# Altium footprint library Mechanical_Hardware_Icons.PcbLib: 1 footprints
Each footprint in its own frame and in the unit in brackets; x right, y up, seen from the top. Pads: shape width x height; smd on the part's side, far side on the other; paste and mask are expansions set on the pad; w line width, h text height; cw(c..) or ccw(c..) is an arc to the next point about the centre after c.
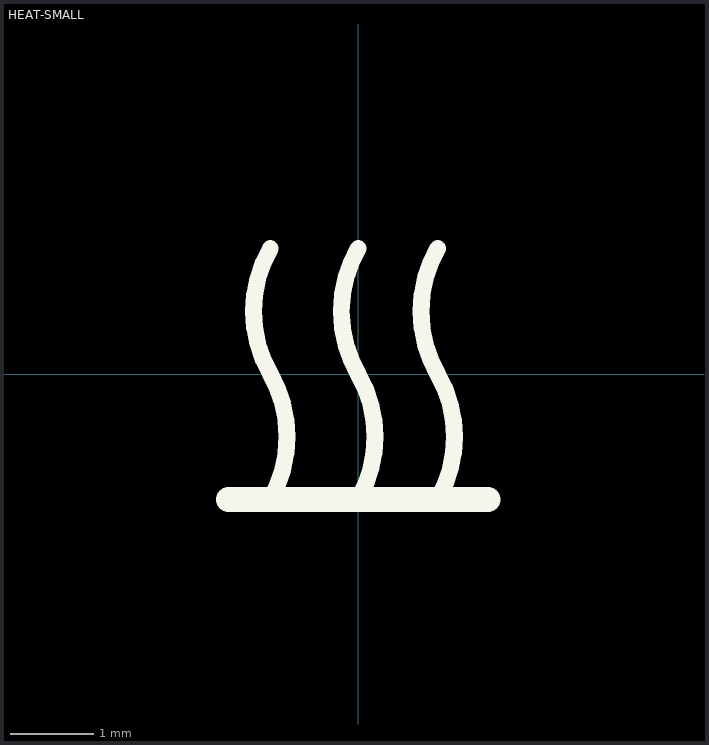
[diagram p0: the footprint, top view; thin cyan lines are the x and y axes]

## HEAT-SMALL [mm]
Top Overlay:
  lines w0.2: -1.05,-1.5 ccw(c-2.35,-0.75) -1.05,0 cw(c0.25,0.75) -1.05,1.5 ; 0,-1.5 ccw(c-1.3,-0.75) 0,0 cw(c1.3,0.75) 0,1.5 ; 0.95,-1.5 ccw(c-0.35,-0.75) 0.95,0 cw(c2.25,0.75) 0.95,1.5
  lines w0.3: -1.55,-1.5 1.55,-1.5
Top Package:
  lines w0.1: -1.05,-1.5 ccw(c-2.35,-0.75) -1.05,0 cw(c0.25,0.75) -1.05,1.5 ; 0,-1.5 ccw(c-1.3,-0.75) 0,0 cw(c1.3,0.75) 0,1.5 ; 0.95,-1.5 ccw(c-0.35,-0.75) 0.95,0 cw(c2.25,0.75) 0.95,1.5
  lines w0.2: -1.55,-1.5 1.55,-1.5